# Altium schematic symbol library Custom.SchLib: 30 symbols
Pins are listed as number, name and electrical type; pins without a type are passive.

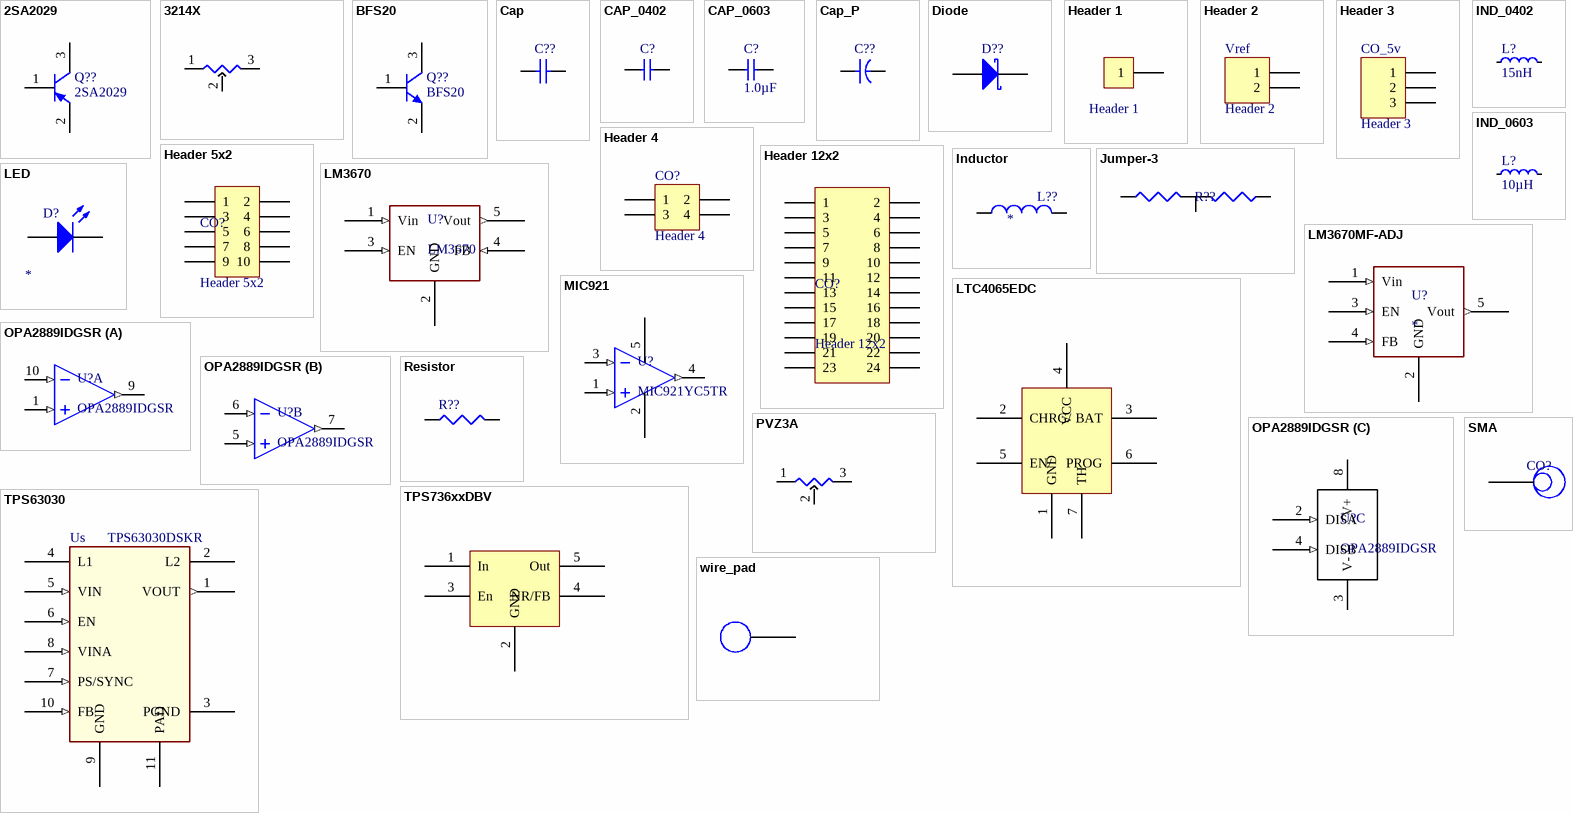
[diagram p0: symbols 2SA2029 to wire_pad]

## 2SA2029
designator Q??
PNP Bipolar Transistor; Manufacturer: Rohm; Supplier: Digikey; Manufacturer PN: 2SA2029
footprint SC105AA
pins: 1 B, 2 E, 3 C

## 3214X
designator R?  (value not drawn)
Bournes trimmer pot; Note: 5 turn; Manufacturer: Bournes; Manufacturer PN: 3214X; Supplier: Digikey
footprint 3214X (Bournes trimmer resistor)
pins: 1, 2, 3

## BFS20
designator Q??
NPN Bipolar Transistor; Manufacturer: NXP; JEDEC code: TO-236AB; Supplier: Digikey; Supplier PN: 568-6825-1-ND; Manufacturer PN: BFS20
simulation model NPN
signal-integrity model NPN
footprint SOT23-3
pins: 1 B, 2 E, 3 C

## Cap
designator C??  (value not drawn)
Capacitor; Supplier: Digikey; Manufacturer PN: *
simulation model CAP (Capacitor)
signal-integrity model Cap
footprint 0402 (Chip Resistor; Body 1 x 0.5 mm (LxW typ))
footprint 0201
footprint 0402_ss
footprint 0402_s
footprint 3-0603-CAP (Chip Resistor; Body 1.6 x 0.9 mm (LxW typ))
footprint 0603
pins: 1, 2

## CAP_0402
designator C?
Capacitor, X7R, ±10%
footprint CAPC1005X04L
pins: 1, 2

## CAP_0603
designator C?, comment 1.0µF
Capacitor, X7R, ±10%; Part Number: C0603-1µ0; Note: 16V; Artikkelnr Noca: 20039335; Artikkelnr Simpro: N.A.; Manufacturer: *; Manufacturer Part Number: *; Datasheet: *; LatestRevisionDate: 2013-06-05; Pin Count: 2; Publisher: Nordic Semiconductor; Published: 2009-05-08; Value: 1.0µF; Supplier: *; Supplier part number: *; 2nd source Supplier: *; 2nd source part number: *; Footprint Doc: 0603
footprint CAPC1608X06L
pins: 1, 2

## Cap_P
designator C??  (value not drawn)
Polarized Capacitor; Supplier: Digikey; Manufacturer PN: *
simulation model CAP (Capacitor)
signal-integrity model Cap
footprint M_Vishay (Vishay footprint for M size tantalum cap)
pins: 1, 2

## Diode
designator D??
signal-integrity model D Schottky
footprint X3-DFN0603-2
footprint X3-WLB1006-2
pins: 1 K, 2 A

## Header 1
designator ?
Header, 2-Pin
signal-integrity model Connector
footprint HDR1X1 (Connector; Header; 2 Position)
footprint HDR1X1-50mil (Connector; Header; 2 Position)
pins: 1

## Header 2
designator Vref
Header, 2-Pin
signal-integrity model Connector
footprint HDR1X2 (Connector; Header; 2 Position)
footprint HDR1X2-50mil (Connector; Header; 2 Position)
footprint HDR1X2-alternate (Connector; Header; 2 Position)
pins: 1, 2

## Header 3
designator CO_5v
Header, 3-Pin
footprint HDR1X3 (Connector; Header; 3 Position)
signal-integrity model Connector
footprint HDR1X3-50mil (Connector; Header; 2 Position)
pins: 1, 2, 3

## Header 4
designator CO?
Header, 4-Pin
signal-integrity model Connector
footprint HDR2X2 (Connector; Header; 2 Position)
pins: 1, 2, 3, 4

## Header 5x2
designator CO?
Header, 10-Pin
signal-integrity model Connector
footprint HDR5X2 (Connector; Header; 2 Position)
pins: 1, 2, 3, 4, 5, 6, 7, 8, 9, 10

## Header 12x2
designator CO?
Header, 10-Pin
signal-integrity model Connector
footprint HDR12X2 - 2mm (Connector; Header; 24 Position, 2mm pitch)
pins: 1, 2, 3, 4, 5, 6, 7, 8, 9, 10, 11, 12, 13, 14, 15, 16, 17, 18, 19, 20, 21, 22, 23, 24

## IND_0402
designator L?, comment 15nH
High frequency chip inductor ±10%; Part Number: L0402-15n; Manufacturer: Taiyo Yuden; Manufacturer Part Number: HK100515NJ-T; 2nd source part number: 658-1328; Artikkelnr Noca: 33029323; Artikkelnr Simpro: N.A.; LatestRevisionDate: 2012-09-19; Pin Count: 2; Publisher: Nordic Semiconductor; Published: 2010-07-12; Value: 15nH; Note: High frequency chip inductor ±10%; Supplier: Digi-Key; Datasheet: http://www.yuden.co.jp/productdata/catalog/en/mlci04_e.pdf; Supplier part number: 587-1521-1-ND; 2nd source Supplier: Farnell; Footprint Doc: 0402
footprint INDC1005X04L
pins: 1, 2

## IND_0603
designator L?, comment 10µH
Chip inductor, IDC,min = 50 mA, ±20%; Part Number: L0603-10µ; Manufacturer: Taiyo Yuden; Manufacturer Part Number: LBMF1608T100K; 2nd source part number: 178-6105; Note: LBMF1608T100K 10µH 80mA 0603; Artikkelnr Noca: 33029314; Artikkelnr Simpro: N.A.; Datasheet: http://www.yuden.co.jp/ut/product/pdf/elb2_e.pdf; LatestRevisionDate: 2012-09-19; Pin Count: 2; Publisher: Nordic Semiconductor; Published: 2010-02-24; Value: 10µH; Supplier: Digi-Key; Supplier part number: 587-1714-1-ND; 2nd source Supplier: Farnell; Footprint Doc: 0603
footprint INDC1608X06L
pins: 1, 2

## Inductor
designator L??
Inductor; Supplier: Digikey; Manufacturer PN: *
simulation model INDUCTOR (Inductor)
signal-integrity model Inductor
footprint 1-0201 (Chip Resistor; Body 0.6 x 0.3 mm (LxW typ))
footprint 2-0402 (Chip Resistor; Body 1 x 0.5 mm (LxW typ))
footprint 3-0603 (Chip Resistor; Body 1.6 x 0.9 mm (LxW typ))
footprint 6-0805 (Chip Resistor; Body 2 x 1.2 mm (LxW typ))
footprint 8-1206 (Chip Resistor; Body 3.1 x 1.6 mm (LxW typ))
footprint 12-1812 (Chip Resistor; Body 4.5 x 3.2 mm (LxW typ))
footprint 14-1210 (Chip Resistor; Body 3.2 x 2.5 mm (LxW typ))
footprint 3-0603-IND (Chip Resistor; Body 1.6 x 0.9 mm (LxW typ))
footprint 6-0805-IND (Chip Resistor; Body 2 x 1.2 mm (LxW typ))
pins: 1, 2

## Jumper-3
designator R??
Resistor; Supplier: Digikey; Manufacturer: *
simulation model RESISTOR (Resistor)
signal-integrity model Res
footprint jumper-3_0402
pins: 1, 2, C

## LED
designator D?
Typical RED, GREEN, YELLOW, AMBER GaAs LED; Manufacturer: *; Manufacturer PN: *; Supplier: Digikey; Supplier PN: *; Color: *
footprint LED-0603
pins: 1 A, 2 K

## LM3670
designator U?
DC-DC buck regulator; Manufacturer: TI; Package drawing: DBV; Supplier: Digikey; Manufacturer PN: LM3670
footprint DBV005 (SOT-23/SC-74A; 5 Leads; Body 3 x 3 mm, inc. leads (LxW max))
pins: 1 Vin (in), 2 GND (power), 3 EN (in), 4 FB (in), 5 Vout (out)

## LM3670MF-ADJ
designator U?
DC-DC buck regulator; Manufacturer: TI; Package drawing: DBV; Supplier: Digikey; Supplier P/N: LM3670MF-ADJ/NOPBCT-ND
footprint DBV005 (SOT-23/SC-74A; 5 Leads; Body 3 x 3 mm, inc. leads (LxW max))
pins: 1 Vin (in), 2 GND (power) hidden to GND, 3 EN (in), 4 FB (in), 5 Vout (out)

## LTC4065EDC
designator U?
Li-Ion battery charger; Manufacturer: LT; Note: 4.4v float version is available (4.2 is standard): LTC4065EDC-4.4; Manufacturer PN: LTC4065EDC; Supplier: Digikey; Supplier PN: LTC4065EDC#TRMPBFCT-ND
footprint DFN6_LT
pins: 1 GND, 2 CHRG/, 3 BAT, 4 VCC, 5 EN/, 6 PROG, 7 TH

## MIC921
designator U?, comment MIC921YC5TR
Opamp; Manufacturer: Micrel; Supplier: Digikey; Supplier PN: 576-4511-1-ND; Manufacturer PN: MIC921YC5TR
footprint SC70-5
pins: 1 INA+ (in), 2 +V, 3 INA- (in), 4 OUTA (out), 5 -V

## OPA2889IDGSR
designator U?
Opamp; Manufacturer: TI; Supplier: Digikey; Supplier PN: 296-22186-1-ND; Manufacturer PN: OPA2889IDGSR
footprint MSOP10-TI-DGS
part A pins: 1 INA+ (in), 9 OUTA (out), 10 INA- (in)
part B pins: 5 INB+ (in), 6 INB- (in), 7 OUTB (out)
part C pins: 2 DISA (in) "Channel A disable", 3 V- (power), 4 DISB (in) "Channel B disable", 8 V+ (power)

## PVZ3A
designator R?  (value not drawn)
Murata trimmer pot; Manufacturer: Murata; Manufacturer PN: PVZ3A; Supplier: Mouser
footprint PVZ3
pins: 1, 2, 3

## Resistor
designator R??
Resistor; Supplier: Digikey; Manufacturer: *
simulation model RESISTOR (Resistor)
signal-integrity model Res
footprint 0402 (Chip Resistor; Body 1 x 0.5 mm (LxW typ))
footprint 0603 (Chip Resistor; Body 1.6 x 0.9 mm (LxW typ))
footprint 0201
footprint 0402_ss
footprint 0402_s
pins: 1, 2

## SMA
designator CO?
SMA connector; Supplier: Digikey
footprint SMA_e_142-0771-821 (Edge launch SMA connector for Cinch (Emerson) P/N 142-0771-821)
footprint SMA_e_132322 (Edge launch SMA connector for Amphenol P/N 132322)
footprint SMA_v_132134-15
pins: 1 Center, 2 Shield1 hidden to GND "Shield", 3 Shield2 hidden to GND

## TPS736xxDBV
designator U?
LDO Regulator; Manufacturer: TI; Manufacturer PN: TPS736xxDBV; Supplier: Digikey
footprint SOT23-5
pins: 1 In, 2 GND, 3 En, 4 NR/FB, 5 Out

## TPS63030
designator Us, comment TPS63030DSKR
Buck-boost DC-DC; Manufacturer: TI; Note: TPS63030DSKT is the same part; Supplier: Digikey; Supplier PN: 296-39460-1-ND; Manufacturer PN: TPS63030DSKR
footprint DSK10
pins: 1 VOUT (out), 2 L2, 3 PGND (power), 4 L1, 5 VIN (in), 6 EN (in), 7 PS/SYNC (in), 8 VINA (in), 9 GND (power), 10 FB (in), 11 PAD

## wire_pad
designator U?
footprint 1x1mm_pad
footprint 2x1mm_pad
footprint 2x2mm_pad
footprint 3x2mm_pad
footprint 3x3mm_pad
footprint 4x3mm_pad
footprint 4x4mm_pad
footprint 4x2mm_pad
pins: 1 pad